# Altium footprint library IRsensor_Relay_Controller.PcbLib: 9 footprints
Each footprint in its own frame and in the unit in brackets; x right, y up, seen from the top. Pads: shape width x height; smd on the part's side, far side on the other; paste and mask are expansions set on the pad; w line width, h text height; cw(c..) or ccw(c..) is an arc to the next point about the centre after c.
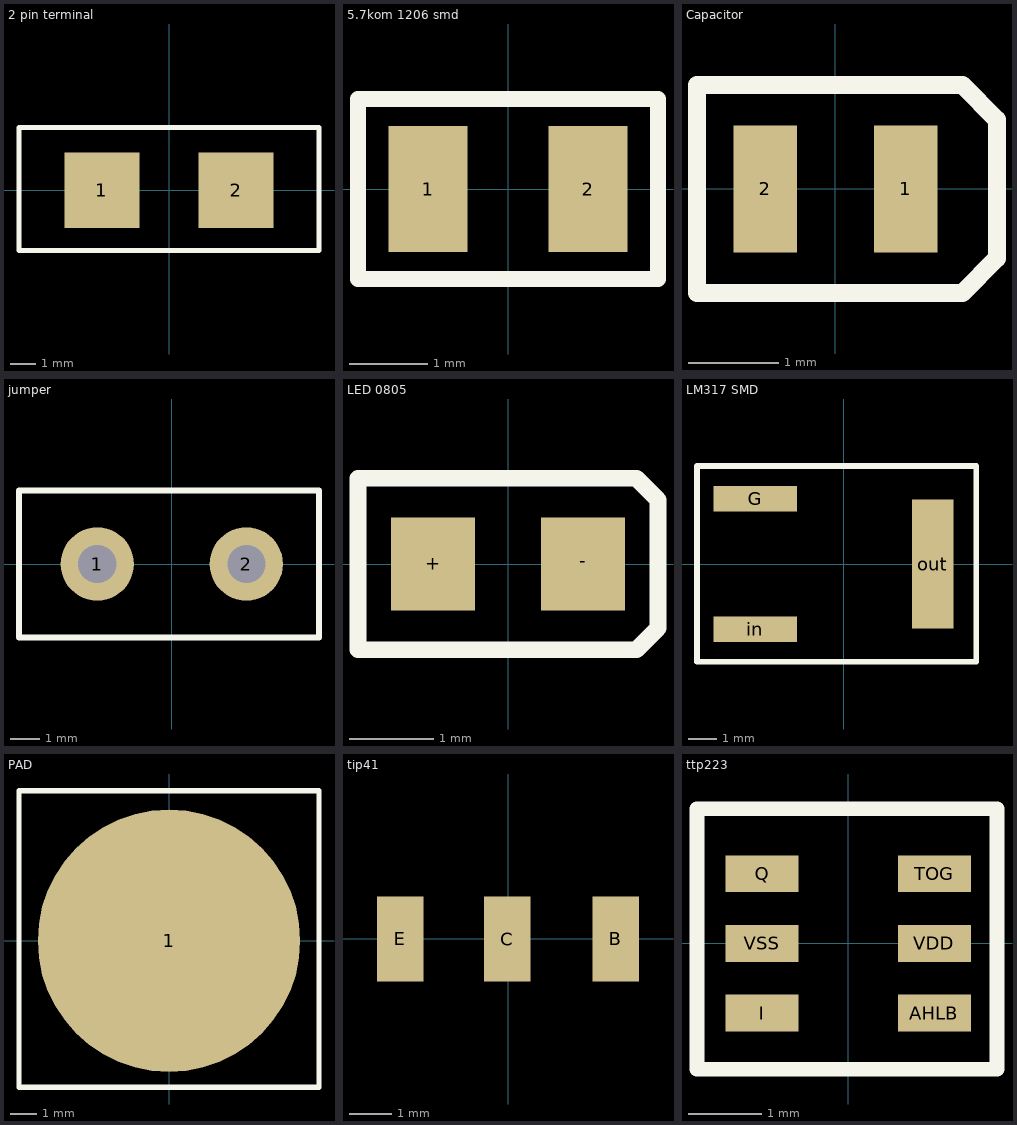
[diagram p0: the footprints below, top view; thin cyan lines are the x and y axes]

## 2 pin terminal [mm]
pads (2):
  rect 3x3 smd: 1(-2.667,0) 2(2.667,0)
Top Overlay:
  lines w0.2: -5.969,-2.413 5.969,-2.413 5.969,2.5 -5.969,2.5 -5.969,-2.413
3D body "OSTOQ025450.stp": height 12.3, standoff -4.3, extent -5.951,-4.331 6.209,4.269

## 5.7kom 1206 smd [mm]
pads (2):
  rect 1x1.6 smd: 1(-1.016,0) 2(1.016,0)
Top Overlay:
  lines w0.2: -1.905,-1.143 -1.905,1.143 1.905,1.143 1.905,-1.143 -1.905,-1.143
3D body "ERA6ARW562V.stp": height 0.5, standoff 0, extent -1,-0.625 1,0.625

## Capacitor [mm]
pads (2):
  rect 0.7x1.4 smd: 1(0.775,0) 2(-0.775,0)
Top Overlay:
  lines w0.2: -1.524,-1.143 -1.524,1.143 1.397,1.143 1.778,0.762 1.778,-0.762 1.397,-1.143 -1.524,-1.143
3D body "C0805C103F3GACTU.stp": height 0.88, standoff 0, extent -1,-0.625 1,0.625

## jumper [mm]
pads (2):
  round 2.5 hole 1.3: 1(-2.54,0) 2(2.54,0)
Top Overlay:
  lines w0.2: -5.207,-2.5 -5.207,2.5 5.016,2.5 5.016,-2.5 -5.207,-2.5
3D body "1933189.stp": height 9.5, standoff -3.5, extent -5,-1.397 5,1.403

## LED 0805 [mm]
pads (2):
  rect 1x1.1 smd: +(-0.889,0) -(0.889,0)
Top Overlay:
  lines w0.2: -1.778,-1.016 1.524,-1.016 1.778,-0.762 1.778,0.762 1.524,1.016 -1.778,1.016 -1.778,-1.016
3D body "VLMS1300-GS08.stp": height 1.1, standoff 0, extent -0.8,-0.4 0.8,0.4

## LM317 SMD [mm]
pads (3):
  rect 2.92x0.89 smd: G(-3.109,2.29) in(-3.109,-2.29)
  rect 1.46x4.5 smd: out(3.11,0)
Top Overlay:
  lines w0.2: -5.141,-3.425 -5.141,3.433 4.638,3.433 4.638,-3.425 -5.141,-3.425
3D body "LM317EMP_NOPB.stp": height 1.8, standoff 0, extent -3.5,-3.25 3.5,3.25

## PAD [mm]
pads (1):
  round 10 smd: 1(0,0)
Top Overlay:
  lines w0.2: -5.715,-5.588 -5.715,5.715 5.715,5.715 5.715,-5.588 -5.715,-5.588

## tip41 [mm]
pads (3):
  rect 1.1x2 smd: B(2.54,0) C(-0.017,-0.005) E(-2.54,0)
3D body "TIP41.stp": height 16.4, standoff -5, extent -5.08,-1.175 5.08,3.175

## ttp223 [mm]
pads (6):
  rect 1x0.5 smd: AHLB(1.177,-0.95) I(-1.177,-0.95) Q(-1.177,0.95) TOG(1.177,0.95) VDD(1.177,0) VSS(-1.177,0)
Top Overlay:
  lines w0.2: -2.066,-1.717 2.032,-1.717 2.032,1.839 -2.066,1.839 -2.066,-1.717
3D body "TTP223E-HA6.stp": height 1.26, standoff 0, extent -1.425,-1.45 1.425,1.45